# EAGLE library part 691325310012 (library Wurth_Connectors_WR-TBL Pluggable Connector)
WR-TBL Serie 3253 - 3.81 mm Horizontal PCB Header with Flanges KIND PROPERTIES Pitch 3.81 mm MATERIAL PROPERTIES Insulator Material PA66 Insulator Flammability Rating UL94 V-0 Contact Material Brass Contact Plating Tin GENERAL INFORMATION Operating Temperature -40 up to +105 °C Compliance RoHS ELECTRICAL PROPERTIES IR cULus 10 A IR VDE 10.5 A Working Voltage [cULus] 300 V (AC) Working Voltage [VDE] 300 V (AC) Withstanding Voltage [cULus] 1600 V (AC) Withstanding Voltage [VDE] 2500 V (AC) Contact Resistance [cULus] 20 mΩ Contact Resistance [VDE] 20 mΩ CERTIFICATION cULus Approval E315414 VDE Approval 40023195 <https://www.we-online.com/catalog/media/o33280v209%20Family_WR-TBL_69132531000x.jpg> Details see: https://www.we-online.com/catalog/en/TBL_3_81_3253_HORIZONTAL_PCB_HEADER_W_FLANGES_69132531000X/ Updated by Ella Wu 2019-12-23 2022(C) Wurth Elektronik
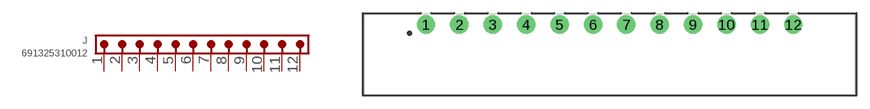
[diagram p101: symbol with the pads of 691325310012; footprint 691325310012]

Designator prefix J

## 691325310012 (DATASHEET-URL: https://www.we-online.com/redexpert/spec/691325310012?ae; IR-UL: 10A; IR-VDE: 10.5A; MOUNT: THT; PART-NUMBER: 691325310012; PINS: 12; PITCH: 3.81mm; TYPE: Horizontal PCB Header; VALUE: 691325310012; WORKING-VOLTAGE-UL: 300V (AC); WORKING-VOLTAGE-VDE: 300V (AC))  [691325310012]
1  1  pas
2  2  pas
3  3  pas
4  4  pas
5  5  pas
6  6  pas
7  7  pas
8  8  pas
9  9  pas
10  10  pas
11  11  pas
12  12  pas

## Footprint 691325310012 (pad centres in mm)
WR-TBL Serie 3253 - 3.81 mm Horizontal PCB Header with Flanges Max Height = 7mm , Pitch 3.81mm , 12pins
drill 1.4: 1 -20.955,0; 2 -17.145,0; 3 -13.335,0; 4 -9.525,0; 5 -5.715,0; 6 -1.905,0; 7 1.905,0; 8 5.715,0; 9 9.525,0; 10 13.335,0; 11 17.145,0; 12 20.955,0